# Altium footprint library HAKATAYA.PcbLib: 227 footprints (part 2 of 15)
Each footprint in its own frame and in the unit in brackets; x right, y up, seen from the top. Pads: shape width x height; smd on the part's side, far side on the other; paste and mask are expansions set on the pad; w line width, h text height; cw(c..) or ccw(c..) is an arc to the next point about the centre after c.
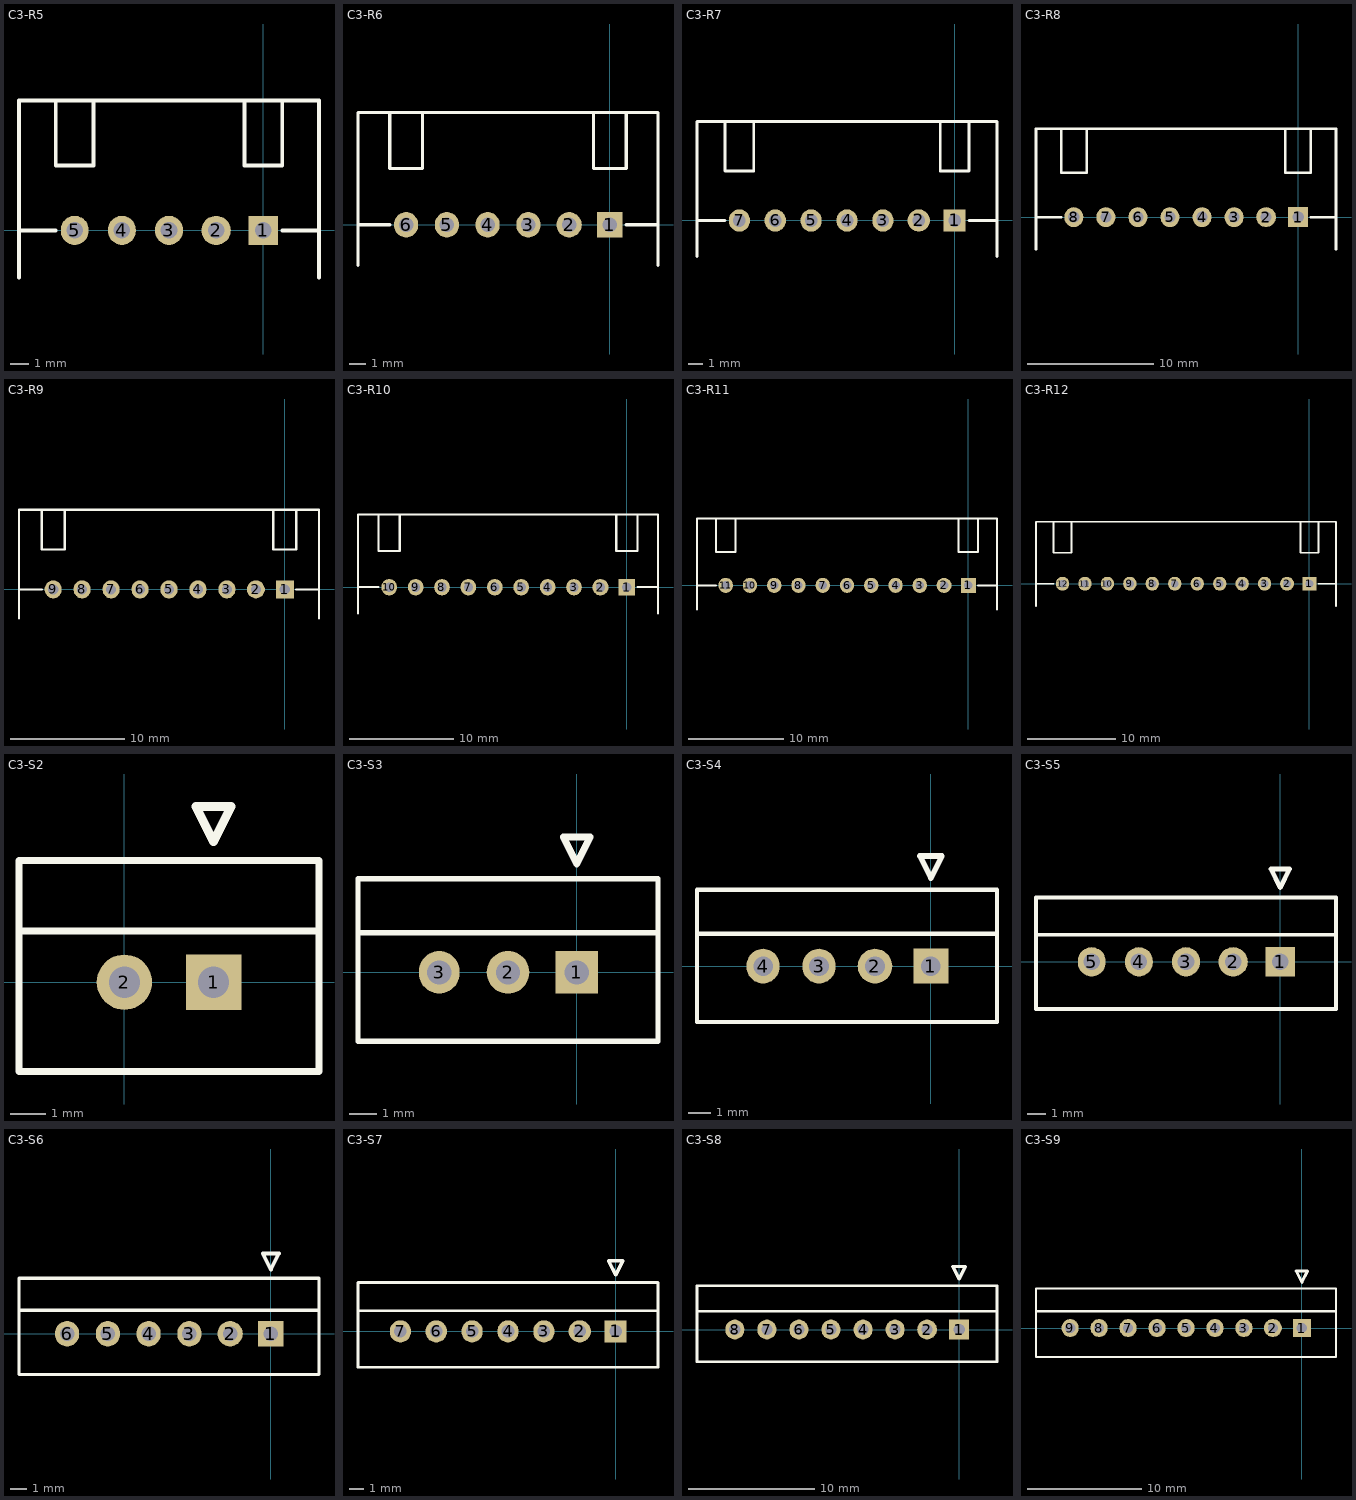
[diagram p1: the footprints below, top view; thin cyan lines are the x and y axes]

## C3-R5 [mm]
height 5.7
pads (5):
  rect 1.575x1.575 hole 0.89: 1(0,0)
  round 1.575 hole 0.89: 2(-2.54,0)
  oval 1.5x1.575 hole 0.89: 3(-5.08,0) 4(-7.62,0) 5(-10.16,0)
Top Overlay:
  lines w0.2: -13.16,-2.54 -13.16,7 3,7 3,-2.54 ; -13.16,0 -11.176,0 ; -11.176,7 -11.176,3.5 -9.144,3.5 -9.144,7 ; -1.016,7 -1.016,3.5 1.016,3.5 1.016,7 ; 1.016,0 3,0

## C3-R6 [mm]
height 5.7
pads (6):
  rect 1.575x1.575 hole 0.89: 1(0,0)
  round 1.575 hole 0.89: 2(-2.54,0)
  oval 1.5x1.575 hole 0.89: 3(-5.08,0) 4(-7.62,0) 5(-10.16,0) 6(-12.7,0)
Top Overlay:
  lines w0.2: -15.7,-2.54 -15.7,7 3,7 3,-2.54 ; -15.7,0 -13.716,0 ; -13.716,7 -13.716,3.5 -11.684,3.5 -11.684,7 ; -1.016,7 -1.016,3.5 1.016,3.5 1.016,7 ; 1.016,0 3,0

## C3-R7 [mm]
height 5.7
pads (7):
  rect 1.575x1.575 hole 0.89: 1(0,0)
  round 1.575 hole 0.89: 2(-2.54,0)
  oval 1.5x1.575 hole 0.89: 3(-5.08,0) 4(-7.62,0) 5(-10.16,0) 6(-12.7,0) 7(-15.24,0)
Top Overlay:
  lines w0.2: -18.24,-2.54 -18.24,7 3,7 3,-2.54 ; -18.24,0 -16.256,0 ; -16.256,7 -16.256,3.5 -14.224,3.5 -14.224,7 ; -1.016,7 -1.016,3.5 1.016,3.5 1.016,7 ; 1.016,0 3,0

## C3-R8 [mm]
height 5.7
pads (8):
  rect 1.575x1.575 hole 0.89: 1(0,0)
  round 1.575 hole 0.89: 2(-2.54,0)
  oval 1.5x1.575 hole 0.89: 3(-5.08,0) 4(-7.62,0) 5(-10.16,0) 6(-12.7,0) 7(-15.24,0) 8(-17.78,0)
Top Overlay:
  lines w0.2: -20.78,-2.54 -20.78,7 3,7 3,-2.54 ; -20.78,0 -18.796,0 ; -18.796,7 -18.796,3.5 -16.764,3.5 -16.764,7 ; -1.016,7 -1.016,3.5 1.016,3.5 1.016,7 ; 1.016,0 3,0

## C3-R9 [mm]
height 5.7
pads (9):
  rect 1.575x1.575 hole 0.89: 1(0,0)
  round 1.575 hole 0.89: 2(-2.54,0)
  oval 1.5x1.575 hole 0.89: 3(-5.08,0) 4(-7.62,0) 5(-10.16,0) 6(-12.7,0) 7(-15.24,0) 8(-17.78,0) 9(-20.32,0)
Top Overlay:
  lines w0.2: -23.32,-2.54 -23.32,7 3,7 3,-2.54 ; -23.32,0 -21.336,0 ; -21.336,7 -21.336,3.5 -19.304,3.5 -19.304,7 ; -1.016,7 -1.016,3.5 1.016,3.5 1.016,7 ; 1.016,0 3,0

## C3-R10 [mm]
height 5.7
pads (10):
  rect 1.575x1.575 hole 0.89: 1(0,0)
  round 1.575 hole 0.89: 2(-2.54,0)
  oval 1.5x1.575 hole 0.89: 3(-5.08,0) 4(-7.62,0) 5(-10.16,0) 6(-12.7,0) 7(-15.24,0) 8(-17.78,0) 9(-20.32,0) 10(-22.86,0)
Top Overlay:
  lines w0.2: -25.86,-2.54 -25.86,7 3,7 3,-2.54 ; -25.86,0 -23.876,0 ; -23.876,7 -23.876,3.5 -21.844,3.5 -21.844,7 ; -1.016,7 -1.016,3.5 1.016,3.5 1.016,7 ; 1.016,0 3,0

## C3-R11 [mm]
height 5.7
pads (11):
  rect 1.575x1.575 hole 0.89: 1(0,0)
  round 1.575 hole 0.89: 2(-2.54,0)
  oval 1.5x1.575 hole 0.89: 3(-5.08,0) 4(-7.62,0) 5(-10.16,0) 6(-12.7,0) 7(-15.24,0) 8(-17.78,0) 9(-20.32,0) 10(-22.86,0) 11(-25.4,0)
Top Overlay:
  lines w0.2: -28.4,-2.54 -28.4,7 3,7 3,-2.54 ; -28.4,0 -26.416,0 ; -26.416,7 -26.416,3.5 -24.384,3.5 -24.384,7 ; -1.016,7 -1.016,3.5 1.016,3.5 1.016,7 ; 1.016,0 3,0

## C3-R12 [mm]
height 5.7
pads (12):
  rect 1.575x1.575 hole 0.89: 1(0,0)
  round 1.575 hole 0.89: 2(-2.54,0)
  oval 1.5x1.575 hole 0.89: 3(-5.08,0) 4(-7.62,0) 5(-10.16,0) 6(-12.7,0) 7(-15.24,0) 8(-17.78,0) 9(-20.32,0) 10(-22.86,0) 11(-25.4,0) 12(-27.94,0)
Top Overlay:
  lines w0.2: -30.94,-2.54 -30.94,7 3,7 3,-2.54 ; -30.94,0 -28.956,0 ; -28.956,7 -28.956,3.5 -26.924,3.5 -26.924,7 ; -1.016,7 -1.016,3.5 1.016,3.5 1.016,7 ; 1.016,0 3,0

## C3-S2 [mil] "2.54"
height 275.59
pads (2):
  rect 62x62 hole 35.04: 1(100,0)
  round 62 hole 35.04: 2(0,0)
Top Overlay:
  lines w7.87: -118.11,57.48 218.11,57.48 ; -118.11,-100 -118.11,136.22 218.11,136.22 218.11,-100 -118.11,-100
  lines w10: 80.31,196.85 100,157.48 119.69,196.85 80.31,196.85

## C3-S3 [mil] "2.54"
height 275.59
pads (3):
  rect 62x62 hole 35.04: 1(0,0)
  round 62 hole 35.04: 2(-100,0)
  oval 59.06x62 hole 35.04: 3(-200,0)
Top Overlay:
  lines w7.87: -318.11,57.48 118.11,57.48 ; -318.11,-100 -318.11,136.22 118.11,136.22 118.11,-100 -318.11,-100
  lines w10: -19.68,196.85 19.68,196.85 0,157.48 -19.68,196.85

## C3-S4 [mm] "2.54"
pads (4):
  rect 1.575x1.575 hole 0.89: 1(0,0)
  round 1.575 hole 0.89: 2(-2.54,0)
  oval 1.5x1.575 hole 0.89: 3(-5.08,0) 4(-7.62,0)
Top Overlay:
  lines w0.2: -10.62,1.46 3,1.46 ; -10.62,-2.54 -10.62,3.46 3,3.46 3,-2.54 -10.62,-2.54
  lines w0.254: -0.5,5 0.5,5 0,4 -0.5,5

## C3-S5 [mm] "2.54"
pads (5):
  rect 1.575x1.575 hole 0.89: 1(0,0)
  round 1.575 hole 0.89: 2(-2.54,0)
  oval 1.5x1.575 hole 0.89: 3(-5.08,0) 4(-7.62,0) 5(-10.16,0)
Top Overlay:
  lines w0.2: -13.16,1.46 3,1.46 ; -13.16,-2.54 -13.16,3.46 3,3.46 3,-2.54 -13.16,-2.54
  lines w0.254: -0.5,5 0.5,5 0,4 -0.5,5

## C3-S6 [mm] "2.54"
pads (6):
  rect 1.575x1.575 hole 0.89: 1(0,0)
  round 1.575 hole 0.89: 2(-2.54,0)
  oval 1.5x1.575 hole 0.89: 3(-5.08,0) 4(-7.62,0) 5(-10.16,0) 6(-12.7,0)
Top Overlay:
  lines w0.2: -15.7,1.46 3,1.46 ; -15.7,-2.54 3,-2.54 3,3.46 -15.7,3.46 -15.7,-2.54
  lines w0.254: -0.5,5 0,4 0.5,5 -0.5,5

## C3-S7 [mm] "2.54"
pads (7):
  rect 1.575x1.575 hole 0.89: 1(0,0)
  round 1.575 hole 0.89: 2(-2.54,0)
  oval 1.5x1.575 hole 0.89: 3(-5.08,0) 4(-7.62,0) 5(-10.16,0) 6(-12.7,0) 7(-15.24,0)
Top Overlay:
  lines w0.2: -18.24,1.46 3,1.46 ; -18.24,-2.54 -18.24,3.46 3,3.46 3,-2.54 -18.24,-2.54
  lines w0.254: -0.5,5 0.5,5 0,4 -0.5,5

## C3-S8 [mm] "2.54"
pads (8):
  rect 1.575x1.575 hole 0.89: 1(0,0)
  round 1.575 hole 0.89: 2(-2.54,0)
  oval 1.5x1.575 hole 0.89: 3(-5.08,0) 4(-7.62,0) 5(-10.16,0) 6(-12.7,0) 7(-15.24,0) 8(-17.78,0)
Top Overlay:
  lines w0.2: -20.78,1.46 3,1.46 ; -20.78,-2.54 -20.78,3.46 3,3.46 3,-2.54 -20.78,-2.54
  lines w0.254: -0.5,5 0.5,5 0,4 -0.5,5

## C3-S9 [mm] "2.54"
pads (9):
  rect 1.575x1.575 hole 0.89: 1(0,0)
  round 1.575 hole 0.89: 2(-2.54,0)
  oval 1.5x1.575 hole 0.89: 3(-5.08,0) 4(-7.62,0) 5(-10.16,0) 6(-12.7,0) 7(-15.24,0) 8(-17.78,0) 9(-20.32,0)
Top Overlay:
  lines w0.2: -23.32,1.46 3,1.46 ; -23.32,-2.54 -23.32,3.46 3,3.46 3,-2.54 -23.32,-2.54
  lines w0.254: -0.5,5 0.5,5 0,4 -0.5,5